# Altium footprint library DDR5_Nucleo_Shield_Footprints.PcbLib: 41 footprints (part 3 of 3)
Each footprint in its own frame and in the unit in brackets; x right, y up, seen from the top. Pads: shape width x height; smd on the part's side, far side on the other; paste and mask are expansions set on the pad; w line width, h text height; cw(c..) or ccw(c..) is an arc to the next point about the centre after c.
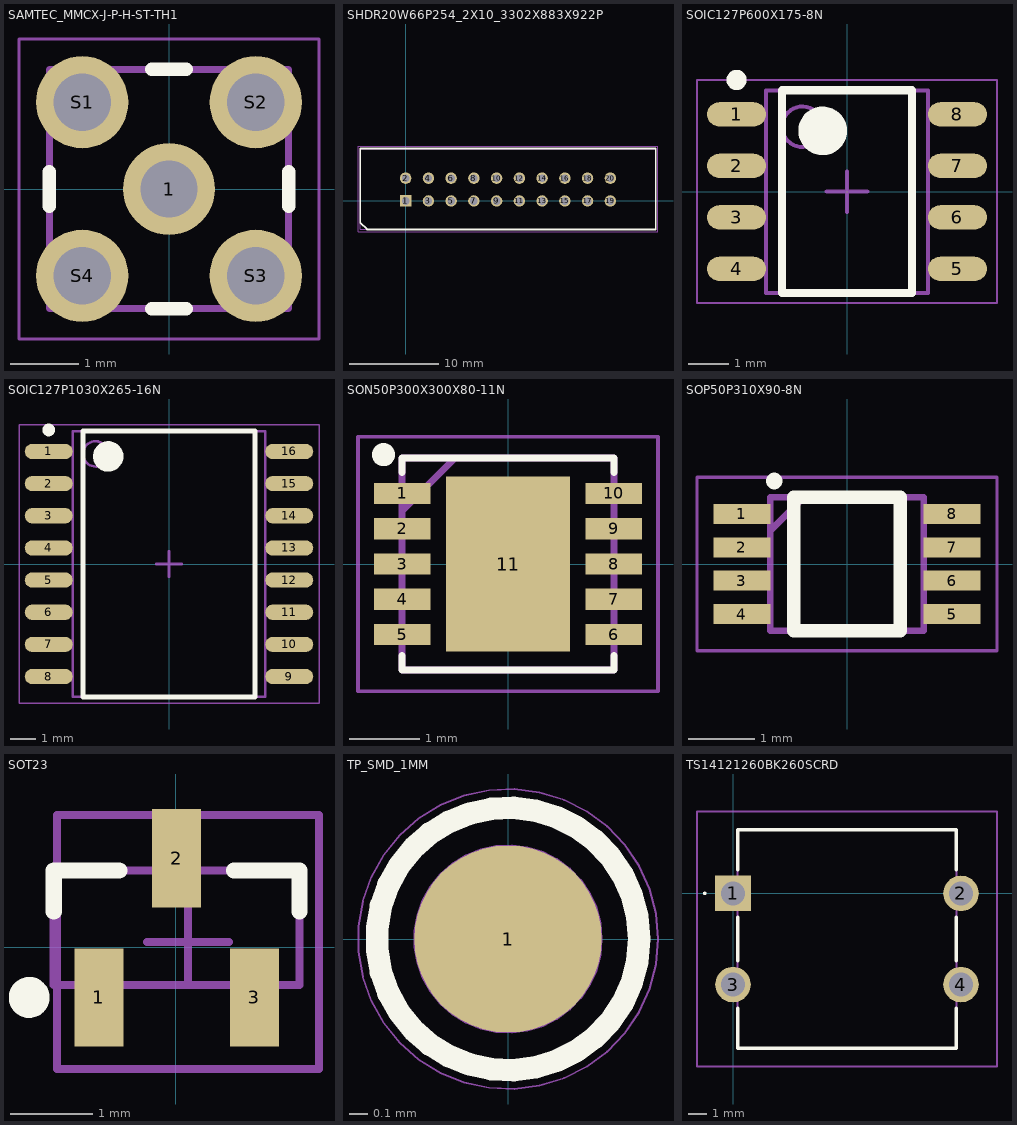
[diagram p2: the footprints below, top view; thin cyan lines are the x and y axes]

## SAMTEC_MMCX-J-P-H-ST-TH1 [mm]
height 4.35
pads (5):
  round 1.348 hole 0.84: 1(0,0) S1(-1.27,1.27) S2(1.27,1.27) S3(1.27,-1.27) S4(-1.27,-1.27)
Top Overlay:
  lines w0.2: -1.75,-0.25 -1.75,0.25 ; -0.25,-1.75 0.25,-1.75 ; -0.25,1.75 0.25,1.75 ; 1.75,-0.25 1.75,0.25
Mechanical 13:
  lines w0.1: -1.75,-1.75 1.75,-1.75 1.75,1.75 -1.75,1.75 -1.75,-1.75
Mechanical 15:
  lines w0.05: -2.195,-2.195 -2.195,2.195 2.195,2.195 2.195,-2.195 -2.195,-2.195
3D body "MMCX-J-P-H-ST-TH1.stp": height 4.35, standoff -3.05, extent -1.722,-1.75 1.778,1.75

## SHDR20W66P254_2X10_3302X883X922P [mm]
pads (20):
  rect 1.275x1.275 / inner round 1.275 / far side rect 1.275x1.275 hole 0.85: 1(0,0)
  round 1.275 hole 0.85: 2(0,2.54) 3(2.54,0) 4(2.54,2.54) 5(5.08,0) 6(5.08,2.54) 7(7.62,0) 8(7.62,2.54) 9(10.16,0) 10(10.16,2.54) 11(12.7,0) 12(12.7,2.54) 13(15.24,0) 14(15.24,2.54) 15(17.78,0) 16(17.78,2.54) 17(20.32,0) 18(20.32,2.54) 19(22.86,0) 20(22.86,2.54)
Top Overlay:
  lines w0.2: -5.08,-2.413 -5.08,5.845 27.94,5.845 27.94,-3.175 -4.318,-3.175 -5.08,-2.413
Mechanical 15:
  lines w0.1: -5.08,-3.175 27.94,-3.175 27.94,5.845 -5.08,5.845 -5.08,-3.175
Mechanical 20:
  lines w0.05: -5.33,-3.425 28.19,-3.425 28.19,6.095 -5.33,6.095 -5.33,-3.425
3D body "1761681-7.stp": height 8.89, standoff -3.23, extent -5.08,-3.213 27.94,6.007

## SOIC127P600X175-8N [mm] "SOIC, 8-Leads, Body 4,91x3,90mm, Pitch 1,27mm, IPC Medium Density"
height 1.75
pads (8):
  oval 1.45x0.6 smd: 1(-2.725,1.905) 2(-2.725,0.635) 3(-2.725,-0.635) 4(-2.725,-1.905) 5(2.725,-1.905) 6(2.725,-0.635) 7(2.725,0.635) 8(2.725,1.905)
Top Overlay:
  circle w0.6: c-0.6,1.5 r0.3
  circle w0.25: c-2.725,2.755 r0.125
  lines w0.2: -1.6,-2.5 1.6,-2.5 1.6,2.5 -1.6,2.5 -1.6,-2.5
Mechanical 13:
  circle w0.1: c-1.1,1.6 r0.5
  lines w0.1: -2,-2.5 2,-2.5 2,2.5 -2,2.5 -2,-2.5
Mechanical 15:
  lines w0.05: -3.7,-2.75 3.7,-2.75 3.7,2.75 -3.7,2.75 -3.7,-2.75
  lines w0.1: -0.5,0 0.5,0 ; 0,-0.5 0,0.5
3D body "SOIC127P600X175-8N.step": height 1.75, standoff 0, extent -2.997,-2.5 2.997,2.5

## SOIC127P1030X265-16N [mm] "SOIC, 16-Leads, Body 10,30x7,50mm, Pitch 1,27mm, IPC Medium Density"
height 2.65
pads (16):
  oval 1.9x0.6 smd: 1(-4.75,4.445) 2(-4.75,3.175) 3(-4.75,1.905) 4(-4.75,0.635) 5(-4.75,-0.635) 6(-4.75,-1.905) 7(-4.75,-3.175) 8(-4.75,-4.445) 9(4.75,-4.445) 10(4.75,-3.175) 11(4.75,-1.905) 12(4.75,-0.635) 13(4.75,0.635) 14(4.75,1.905) 15(4.75,3.175) 16(4.75,4.445)
Top Overlay:
  circle w0.6: c-2.4,4.25 r0.3
  circle w0.25: c-4.75,5.295 r0.125
  lines w0.2: -3.4,-5.25 3.4,-5.25 3.4,5.25 -3.4,5.25 -3.4,-5.25
Mechanical 13:
  circle w0.1: c-2.9,4.35 r0.5
  lines w0.1: -3.8,-5.25 3.8,-5.25 3.8,5.25 -3.8,5.25 -3.8,-5.25
Mechanical 15:
  lines w0.05: -5.925,-5.5 5.925,-5.5 5.925,5.5 -5.925,5.5 -5.925,-5.5
  lines w0.1: -0.5,0 0.5,0 ; 0,-0.5 0,0.5
3D body "SOIC127P1030X265-16N.step": height 2.65, standoff 0, extent -5.162,-5.25 5.162,5.25

## SON50P300X300X80-11N [mm]
pads (11):
  rect 0.8x0.3 smd: 1(-1.5,1) 2(-1.5,0.5) 3(-1.5,0) 4(-1.5,-0.5) 5(-1.5,-1) 6(1.5,-1) 7(1.5,-0.5) 8(1.5,0) 9(1.5,0.5) 10(1.5,1)
  rect 1.75x2.48 smd: 11(0,0)
Top Overlay:
  circle w0.254: c-1.763,1.549 r0.036
  lines w0.1: -1.499,-1.295 -1.499,-1.499 1.041,-1.499 1.499,-1.499 1.499,-1.295 ; -1.499,1.295 -1.499,1.499 1.041,1.499 1.499,1.499 1.499,1.295
Mechanical 13:
  lines w0.1: -1.5,0.75 -0.75,1.5 ; -1.5,-1.5 -1.5,1.5 1.5,1.5 1.5,-1.5 -1.5,-1.5
Mechanical 15:
  lines w0.05: -2.125,-1.8 -2.125,1.8 2.125,1.8 2.125,-1.8 -2.125,-1.8
3D body "LT3045MPDD#PBF.stp": height 0.8, standoff 0, extent -1.55,-1.5 1.55,1.5

## SOP50P310X90-8N [mm]
pads (8):
  rect 0.85x0.3 smd: 1(-1.575,0.75) 2(-1.575,0.25) 3(-1.575,-0.25) 4(-1.575,-0.75) 5(1.575,-0.75) 6(1.575,-0.25) 7(1.575,0.25) 8(1.575,0.75)
Top Overlay:
  circle w0.25: c-1.092,1.245 r0
  lines w0.2: -0.8,-1 -0.8,1 0.8,1 0.8,-1 -0.8,-1
Mechanical 15:
  lines w0.1: -1.15,0.5 -0.65,1 ; -1.15,-1 -1.15,1 1.15,1 1.15,-1 -1.15,-1
Mechanical 20:
  lines w0.05: -2.25,-1.3 -2.25,1.3 2.25,1.3 2.25,-1.3 -2.25,-1.3
3D body "TCA39306DCURQ1.stp": height 0.77, standoff 0, extent -1.575,-1.025 1.525,0.975

## SOT23 [mm]
pads (3):
  rect 0.6x1.2 smd: 1(-0.939,-0.61) 2(0.011,1.09) 3(0.961,-0.61)
Top Overlay:
  circle w0.25: c-1.789,-0.61 r0.125
  lines w0.2: -1.489,0.44 -1.489,0.94 -0.689,0.94 ; 0.711,0.94 1.511,0.94 1.511,0.44
Mechanical 13:
  lines w0.1: -1.489,-0.46 -1.489,0.94 1.511,0.94 1.511,-0.46 -1.489,-0.46
Mechanical 15:
  lines w0.1: -0.35,0.067 0.65,0.067 ; 0.15,-0.433 0.15,0.567 ; -1.45,-1.483 -1.45,1.617 1.75,1.617 1.75,-1.483 -1.45,-1.483
3D body "SOT-23-1.STEP": height 0.99, standoff 0, extent -1.465,-1.034 1.487,1.551

## TP_SMD_1MM [mm]
height 2.96
pads (1):
  round 1 smd paste-10 mask+0.05: 1(0,0)
Top Overlay:
  circle w0.12: c0,0 r0.7
Mechanical 14:
  circle w0.01: c0,0 r0.5
  text "'.Designator'" at 2.05,0.575 h0.75
Mechanical 16:
  circle w0.01: c0,0 r0.8

## TS14121260BK260SCRD [mm]
pads (4):
  rect 1.95x1.95 hole 1.3: 1(0,0)
  round 1.95 hole 1.3: 2(12.5,0) 3(0,-5) 4(12.5,-5)
Top Overlay:
  lines w0.1: -1.6,0 cw(c-1.55,0) -1.5,0 cw(c-1.55,0) -1.6,0
  lines w0.2: 0.25,-6.3 0.25,-8.5 12.25,-8.5 12.25,-6.3 ; 0.25,-3.7 0.25,-1.3 ; 0.25,1.3 0.25,3.5 12.25,3.5 12.25,1.3 ; 12.25,-3.7 12.25,-1.3
Mechanical 15:
  lines w0.1: 0.25,-8.5 0.25,3.5 12.25,3.5 12.25,-8.5 0.25,-8.5
Mechanical 20:
  lines w0.1: -1.975,-9.5 -1.975,4.5 14.475,4.5 14.475,-9.5 -1.975,-9.5
3D body "TS14-1212-60-BK-260-SCR-D.stp": height 6.2, standoff -3.3, extent -0.828,-8.565 13.172,3.435